# Altium footprint library Borna electronic.PcbLib: 28 footprints (part 1 of 2)
Each footprint in its own frame and in the unit in brackets; x right, y up, seen from the top. Pads: shape width x height; smd on the part's side, far side on the other; paste and mask are expansions set on the pad; w line width, h text height; cw(c..) or ccw(c..) is an arc to the next point about the centre after c.
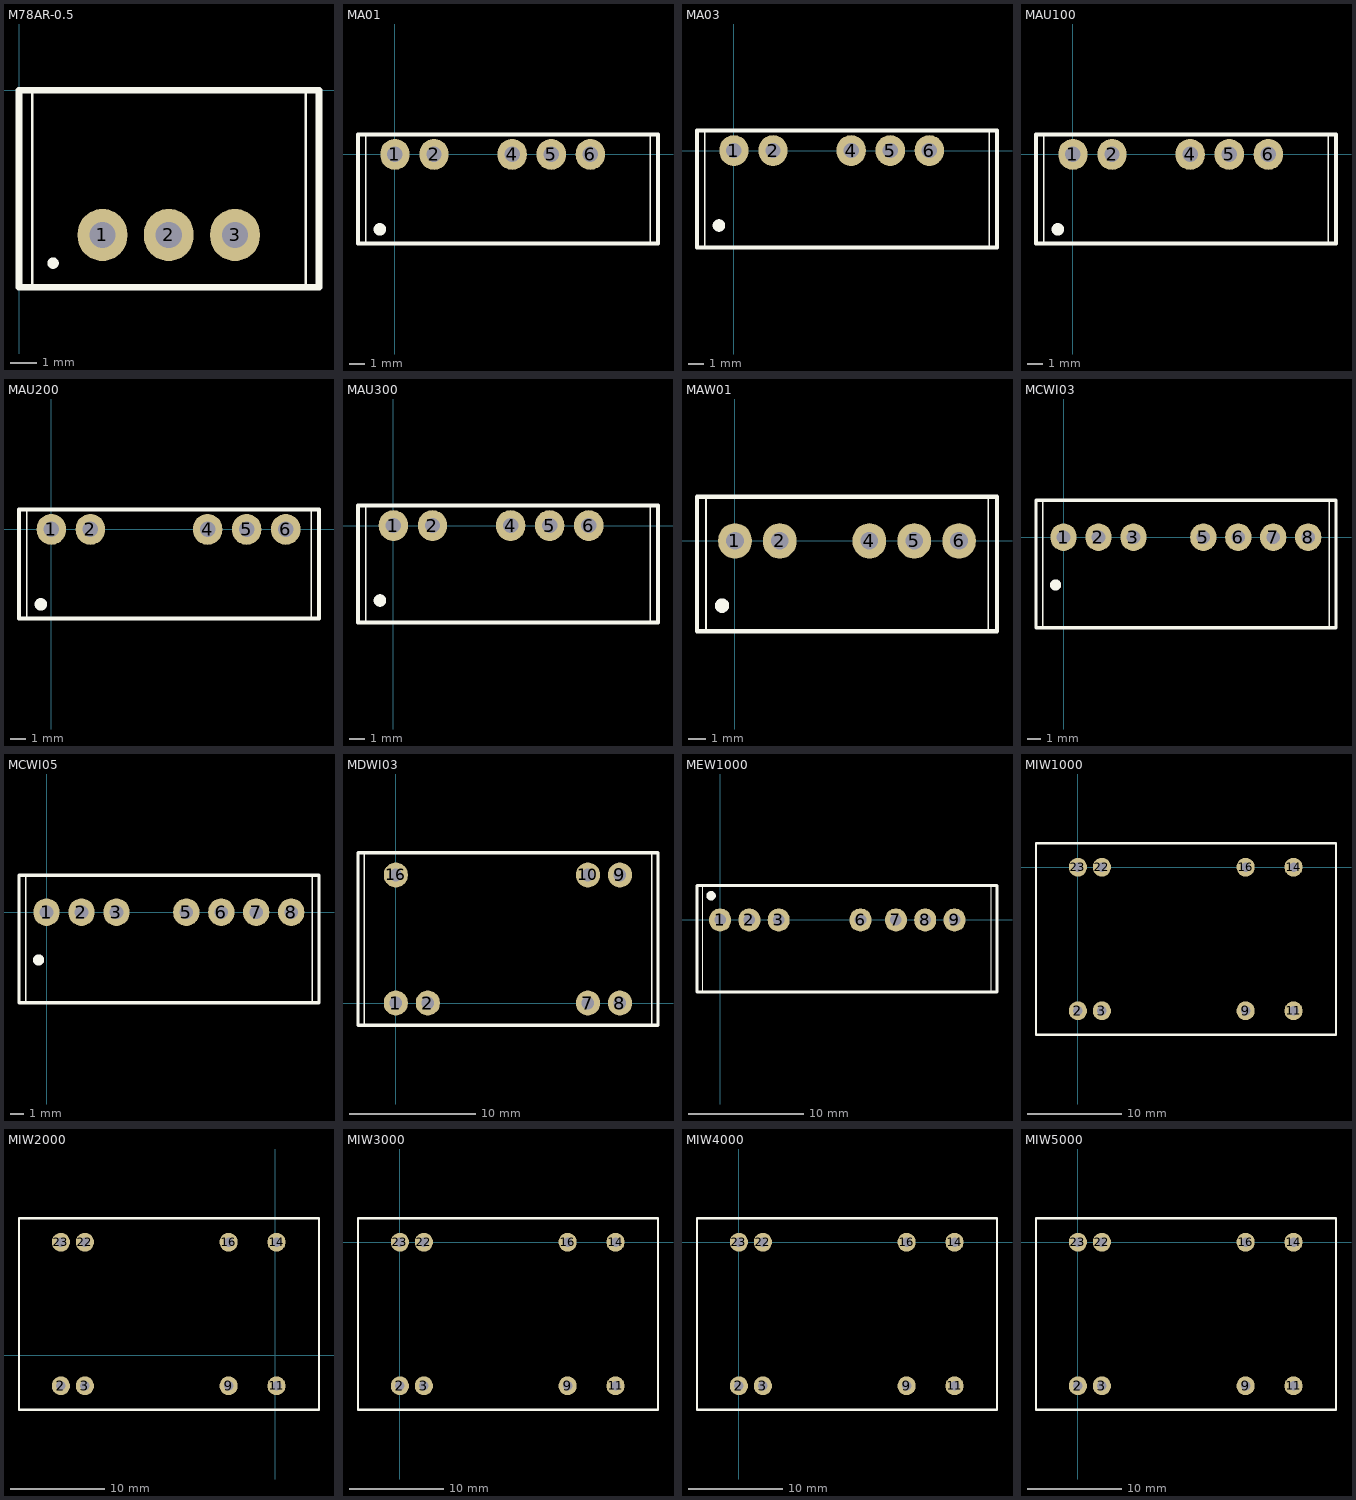
[diagram p0: the footprints below, top view; thin cyan lines are the x and y axes]

## M78AR-0.5 [mm]
pads (3):
  oval 1.905x2 hole 1: 1(3.2,-5.55) 2(5.74,-5.55) 3(8.28,-5.55)
Top Overlay:
  circle w0.254: c1.305,-6.629 r0.092
  lines w0.1: 0.508,-7.55 0.508,0 ; 10.998,-7.575 10.998,-0.025
  lines w0.254: 0,-7.55 0,0 11.5,0 11.5,-7.55 0,-7.55

## MA01 [mm]
pads (5):
  oval 1.905x2 hole 1: 1(0,0) 2(2.54,0) 4(7.62,0) 5(10.16,0) 6(12.7,0)
Top Overlay:
  circle w0.454: c-0.98,-4.872 r0.18
  lines w0.1: -1.892,-5.8 -1.892,1.3 ; 16.599,-5.8 16.599,1.3
  lines w0.254: -2.4,-5.8 -2.4,1.3 17.1,1.3 17.1,-5.8 -2.4,-5.8

## MA03 [mm]
pads (5):
  oval 1.905x2 hole 1: 1(0,0) 2(2.54,0) 4(7.62,0) 5(10.16,0) 6(12.7,0)
Top Overlay:
  circle w0.454: c-0.98,-4.872 r0.18
  lines w0.1: -1.892,-6.3 -1.892,1.3 ; 16.599,-6.3 16.599,1.3
  lines w0.254: -2.4,-6.3 -2.4,1.3 17.1,1.3 17.1,-6.3 -2.4,-6.3

## MAU100 [mm]
pads (5):
  oval 1.905x2 hole 1: 1(0,0) 2(2.54,0) 4(7.62,0) 5(10.16,0) 6(12.7,0)
Top Overlay:
  circle w0.454: c-0.98,-4.872 r0.18
  lines w0.1: -1.892,-5.8 -1.892,1.3 ; 16.599,-5.8 16.599,1.3
  lines w0.254: -2.4,-5.8 -2.4,1.3 17.1,1.3 17.1,-5.8 -2.4,-5.8

## MAU200 [mm]
pads (5):
  oval 1.905x2 hole 1: 1(0,0) 2(2.54,0) 4(10.16,0) 5(12.7,0) 6(15.24,0)
Top Overlay:
  circle w0.454: c-0.68,-4.872 r0.18
  lines w0.1: -1.592,-5.8 -1.592,1.3 ; 16.899,-5.8 16.899,1.3
  lines w0.254: -2.1,-5.8 -2.1,1.3 17.4,1.3 17.4,-5.8 -2.1,-5.8

## MAU300 [mm]
pads (5):
  oval 1.905x2 hole 1: 1(0,0) 2(2.54,0) 4(7.62,0) 5(10.16,0) 6(12.7,0)
Top Overlay:
  circle w0.454: c-0.88,-4.872 r0.18
  lines w0.1: -1.792,-6.3 -1.792,1.3 ; 16.699,-6.3 16.699,1.3
  lines w0.254: -2.3,-6.3 -2.3,1.3 17.2,1.3 17.2,-6.3 -2.3,-6.3

## MAW01 [mm]
pads (5):
  oval 1.905x2 hole 1: 1(0,0) 2(2.54,0) 4(7.62,0) 5(10.16,0) 6(12.7,0)
Top Overlay:
  circle w0.454: c-0.73,-3.672 r0.18
  lines w0.1: -1.642,-5.1 -1.642,2.5 ; 14.35,-5.1 14.35,2.5
  lines w0.254: -2.15,-5.12 -2.15,2.5 14.85,2.5 14.85,-5.12 -2.15,-5.12

## MCWI03 [mm]
pads (7):
  oval 1.905x2 hole 1: 1(0,0) 2(2.54,0) 3(5.08,0) 5(10.16,0) 6(12.7,0) 7(15.24,0) 8(17.78,0)
Top Overlay:
  circle w0.454: c-0.58,-3.472 r0.18
  lines w0.1: -1.492,-6.6 -1.492,2.7 ; 19.3,-6.6 19.3,2.7
  lines w0.254: -2,-6.6 19.8,-6.6 19.8,2.7 -2,2.7 -2,-6.6

## MCWI05 [mm]
pads (7):
  oval 1.905x2 hole 1: 1(0,0) 2(2.54,0) 3(5.08,0) 5(10.16,0) 6(12.7,0) 7(15.24,0) 8(17.78,0)
Top Overlay:
  circle w0.454: c-0.58,-3.472 r0.18
  lines w0.1: -1.492,-6.6 -1.492,2.7 ; 19.3,-6.6 19.3,2.7
  lines w0.254: -2,-6.6 -2,2.7 19.8,2.7 19.8,-6.6 -2,-6.6

## MDWI03 [mm]
pads (7):
  oval 1.905x2 hole 1: 1(0,0) 2(2.54,0) 7(15.24,0) 8(17.78,0) 9(17.78,10.16) 10(15.24,10.16) 16(0,10.16)
Top Overlay:
  lines w0.1: -2.492,-1.77 -2.492,11.93 ; 20.3,-1.77 20.3,11.93
  lines w0.254: -3,-1.77 20.8,-1.77 20.8,11.93 -3,11.93 -3,-1.77

## MEW1000 [mm]
pads (7):
  oval 1.905x2 hole 1: 1(0,0) 2(2.54,0) 3(5.08,0) 6(12.17,0) 7(15.24,0) 8(17.78,0) 9(20.32,0)
Top Overlay:
  circle w0.454: c-0.78,2.1 r0.18
  lines w0.1: -1.492,-6.25 -1.492,3 ; 23.5,-6.3 23.5,3
  lines w0.254: 23.95,-6.25 -2,-6.25 -2,3 23.95,3 ; 24,-6.25 24,3

## MIW1000 [mm]
pads (8):
  oval 1.905x2 hole 1: 2(0,-15.22) 3(2.54,-15.22) 9(17.78,-15.22) 11(22.86,-15.22) 14(22.86,0) 16(17.78,0) 22(2.54,0) 23(0,0)
Top Overlay:
  lines w0.254: -4.44,-17.76 27.36,-17.76 27.36,2.54 -4.44,2.54 -4.44,-17.76

## MIW2000 [mm]
pads (8):
  oval 1.905x2 hole 1: 2(-22.7,-3.22) 3(-20.16,-3.22) 9(-4.92,-3.22) 11(0.16,-3.22) 14(0.16,12) 16(-4.92,12) 22(-20.16,12) 23(-22.7,12)
Top Overlay:
  lines w0.254: -27.14,-5.76 4.66,-5.76 4.66,14.54 -27.14,14.54 -27.14,-5.76

## MIW3000 [mm]
pads (8):
  oval 1.905x2 hole 1: 2(0,-15.22) 3(2.54,-15.22) 9(17.78,-15.22) 11(22.86,-15.22) 14(22.86,0) 16(17.78,0) 22(2.54,0) 23(0,0)
Top Overlay:
  lines w0.254: -4.44,-17.76 27.36,-17.76 27.36,2.54 -4.44,2.54 -4.44,-17.76

## MIW4000 [mm]
pads (8):
  oval 1.905x2 hole 1: 2(0,-15.22) 3(2.54,-15.22) 9(17.78,-15.22) 11(22.86,-15.22) 14(22.86,0) 16(17.78,0) 22(2.54,0) 23(0,0)
Top Overlay:
  lines w0.254: -4.44,-17.76 27.36,-17.76 27.36,2.54 -4.44,2.54 -4.44,-17.76

## MIW5000 [mm]
pads (8):
  oval 1.905x2 hole 1: 2(0,-15.22) 3(2.54,-15.22) 9(17.78,-15.22) 11(22.86,-15.22) 14(22.86,0) 16(17.78,0) 22(2.54,0) 23(0,0)
Top Overlay:
  lines w0.254: -4.44,-17.76 -4.44,2.54 27.36,2.54 27.36,-17.76 -4.44,-17.76